# EAGLE library part AS-ITM-00142 (library tinycircuits)
IC MUX/DEMUX 8X1 16TSSOP
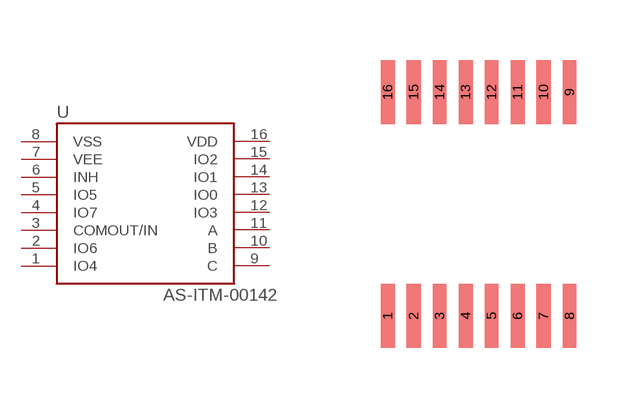
[diagram p64: symbol with the pads of CD4051BPWR; footprint CD4051BPWR]

Designator prefix U

## AS-ITM-00142 (PARTNO: AS-ITM-00142; VALUE: CD4051B)  [CD4051BPWR]
1  IO4
2  IO6
3  COMOUT/IN
4  IO7
5  IO5
6  INH
7  VEE
8  VSS
9  C
10  B
11  A
12  IO3
13  IO0
14  IO1
15  IO2
16  VDD

## Footprint CD4051BPWR (pad centres in mm)
smd 0.35 x 1.6: 1 -2.17,-2.79; 2 -1.52,-2.79; 3 -0.87,-2.79; 4 -0.22,-2.79; 5 0.43,-2.79; 6 1.08,-2.79; 7 1.73,-2.79; 8 2.38,-2.79; 9 2.38,2.81; 10 1.73,2.81; 11 1.08,2.81; 12 0.43,2.81; 13 -0.22,2.81; 14 -0.87,2.81; 15 -1.52,2.81; 16 -2.17,2.81